# EAGLE library part HE11-RDA-101-4 (library sjg-vhdci)
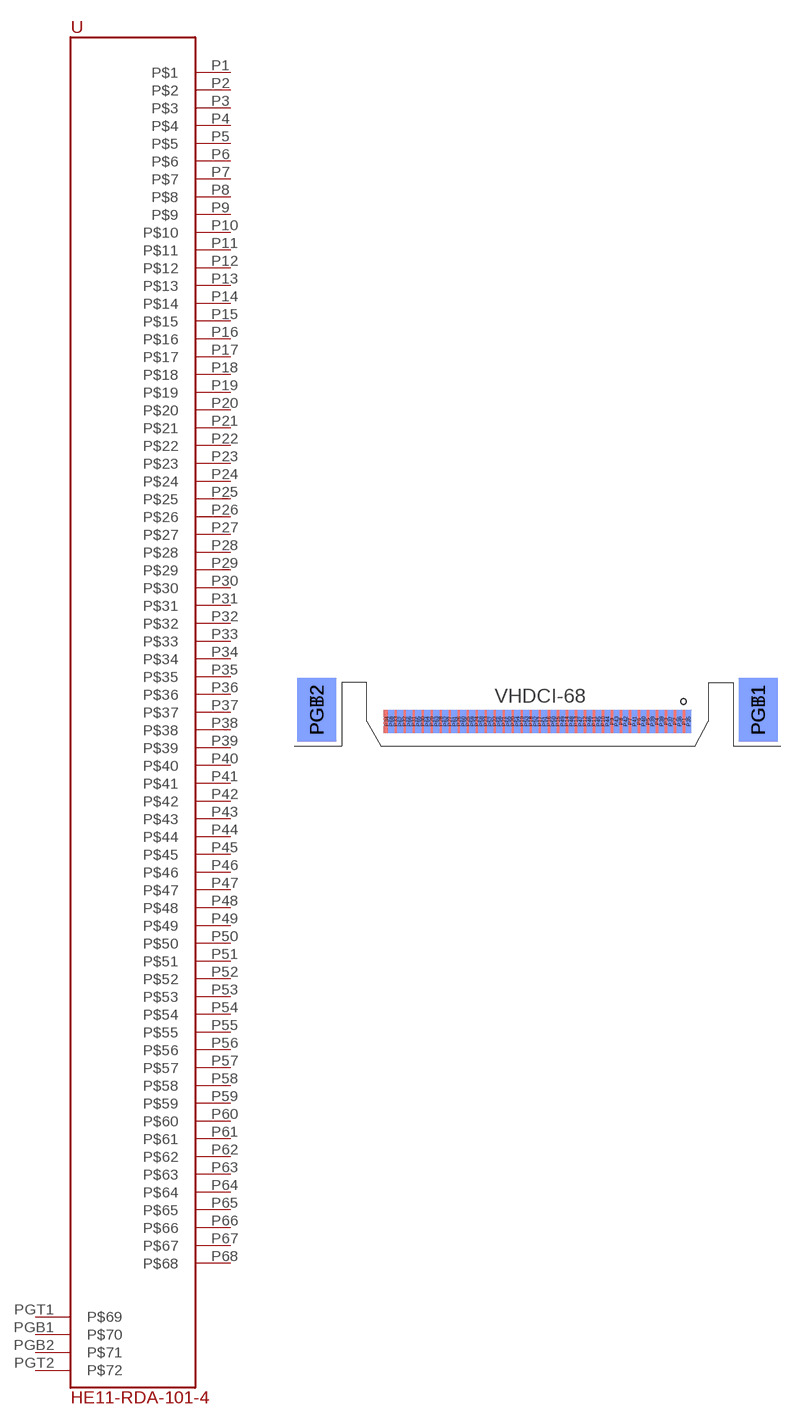
[diagram p0: symbol with the pads of HE11-RDA-101-4; footprint HE11-RDA-101-4]

Designator prefix -

## HE11-RDA-101-4  [HE11-RDA-101-4]
P1  P$1
P2  P$2
P3  P$3
P4  P$4
P5  P$5
P6  P$6
P7  P$7
P8  P$8
P9  P$9
P10  P$10
P11  P$11
P12  P$12
P13  P$13
P14  P$14
P15  P$15
P16  P$16
P17  P$17
P18  P$18
P19  P$19
P20  P$20
P21  P$21
P22  P$22
P23  P$23
P24  P$24
P25  P$25
P26  P$26
P27  P$27
P28  P$28
P29  P$29
P30  P$30
P31  P$31
P32  P$32
P33  P$33
P34  P$34
P35  P$35
P36  P$36
P37  P$37
P38  P$38
P39  P$39
P40  P$40
P41  P$41
P42  P$42
P43  P$43
P44  P$44
P45  P$45
P46  P$46
P47  P$47
P48  P$48
P49  P$49
P50  P$50
P51  P$51
P52  P$52
P53  P$53
P54  P$54
P55  P$55
P56  P$56
P57  P$57
P58  P$58
P59  P$59
P60  P$60
P61  P$61
P62  P$62
P63  P$63
P64  P$64
P65  P$65
P66  P$66
P67  P$67
P68  P$68
PGB1  P$70
PGB2  P$71
PGT1  P$69
PGT2  P$72

## Footprint HE11-RDA-101-4 (pad centres in mm)
smd 0.508 x 2.007: P1 13,2.17; P2 12.2,2.17; P3 11.4,2.17; P4 10.6,2.17; P5 9.8,2.17; P6 9,2.17; P7 8.2,2.17; P8 7.4,2.17; P9 6.6,2.17; P10 5.8,2.17; P11 5,2.17; P12 4.2,2.17; P13 3.4,2.17; P14 2.6,2.17; P15 1.8,2.17; P16 1,2.17; P17 0.2,2.17; P18 -0.6,2.17; P19 -1.4,2.17; P20 -2.2,2.17; P21 -3,2.17; P22 -3.8,2.17; P23 -4.6,2.17; P24 -5.4,2.17; P25 -6.2,2.17; P26 -7,2.17; P27 -7.8,2.17; P28 -8.6,2.17; P29 -9.4,2.17; P30 -10.2,2.17; P31 -11,2.17; P32 -11.8,2.17; P33 -12.6,2.17; P34 -13.4,2.17
smd 0.508 x 2.007 bottom: P35 13.409,2.17; P36 12.609,2.17; P37 11.809,2.17; P38 11.009,2.17; P39 10.209,2.17; P40 9.409,2.17; P41 8.609,2.17; P42 7.809,2.17; P43 7.009,2.17; P44 6.209,2.17; P45 5.409,2.17; P46 4.609,2.17; P47 3.809,2.17; P48 3.009,2.17; P49 2.209,2.17; P50 1.409,2.17; P51 0.609,2.17; P52 -0.191,2.17; P53 -0.991,2.17; P54 -1.791,2.17; P55 -2.591,2.17; P56 -3.391,2.17; P57 -4.191,2.17; P58 -4.991,2.17; P59 -5.791,2.17; P60 -6.591,2.17; P61 -7.391,2.17; P62 -8.191,2.17; P63 -8.991,2.17; P64 -9.791,2.17; P65 -10.591,2.17; P66 -11.391,2.17; P67 -12.191,2.17; P68 -12.991,2.17
smd 3.48 x 5.639 bottom: PGB1 19.6,3.2; PGB2 -19.6,3.2
smd 3.48 x 5.639: PGT1 19.6,3.2; PGT2 -19.6,3.2